# Altium schematic symbol library Fuse_Littelfuse_MINISMDC110F-2_eec.SchLib: 1 symbol
Pins are listed as number, name and electrical type; pins without a type are passive.

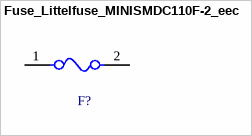
[diagram p0: symbol Fuse_Littelfuse_MINISMDC110F-2_eec]

## Fuse_Littelfuse_MINISMDC110F-2_eec
designator F?
FUSE PTC RESET FUSE 8V 1.1A 1812; Part Number: MINISMDC110F-2; Manufacturer: Littelfuse; helpURL: https://upverter.com/upn/revision/da058c67307d732f/; ComponentLink2Description: Datasheet; Temperature: -40°C to +85°C; Package: 1812 (4532 metric); Supplier 2: Mouser; Price: 0.273088986084; Supplier 1: Digi-Key; ComponentLink1URL: https://upverter.com/upn/revision/da058c67307d732f/; Supplier Part Number 2: 650-MINISMDC110F-2; Supplier Part Number 1: MINISMDC110F-2CT-ND; ComponentLink1Description: Upverter; ComponentLink2URL: http://www.littelfuse.com/~/media/electronics/datasheets/resettable_ptcs/littelfuse_ptc_minismd_catalog_datasheet.pdf.pdf; RoHS: TRUE; Mouser Part Number: 650-MINISMDC110F-2; Temperature Range High: +85°C; Digikey Description: FUSE PTC RESET FUSE 8V 1.1A 1812; Digikey Part Number: MINISMDC110F-2CT-ND; Lead Free: yes; Temperature Range Low: -40°C
footprint Littelfuse_MINISMDC110F-2_0
pins: 1, 2